# Altium schematic symbol library STN3N40K3.SchLib: 1 symbol
Pins are listed as number, name and electrical type; pins without a type are passive.

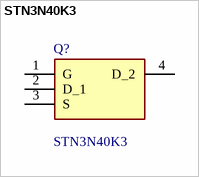
[diagram p0: symbol STN3N40K3]

## STN3N40K3
designator Q?
N-channel 400 V, 3  typ., 1.8 A SuperMESH3 Power MOSFET in a SOT-223 package; Manufacturer_Name: STMicroelectronics; Geometry.Height: 1.9mm; Mouser Part Number: 511-STN3N40K3; Mouser Price/Stock: https://www.mouser.co.uk/ProductDetail/STMicroelectronics/STN3N40K3?qs=fiYlMTh1qt%252Bj9zCjjMVqhQ%3D%3D; Manufacturer_Part_Number: STN3N40K3; Datasheet Link: https://www.st.com/resource/en/datasheet/stn3n40k3.pdf
footprint SOT230P700X190-4N
pins: 1 G, 2 D_1, 3 S, 4 D_2